# EAGLE library part LT5534 (library linear-technology)
RF Power Detector 50MHz to 3GHz, 60dB Dynamic Range
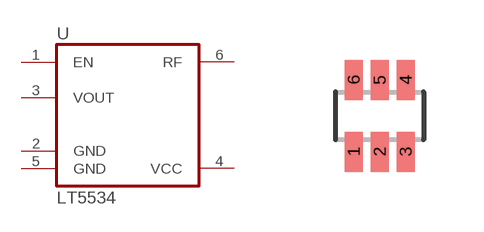
[diagram p48: symbol with the pads of SC70-6W; footprint SC70-6W]

Designator prefix U

## LT5534 (P1I: o)  [SC70-6W]
1  EN  in
2  GND  pwr
3  VOUT  out
4  VCC  pwr
5  GND  pwr
6  RF  in

## Footprint SC70-6W (pad centres in mm)
SC70 0.65 mm pitch
smd 0.45 x 1: 1 -0.65,-0.9; 2 0,-0.9; 3 0.65,-0.9; 4 0.65,0.9; 5 0,0.9; 6 -0.65,0.9